# Altium footprint library SFH2400.PcbLib: 1 footprints
Each footprint in its own frame and in the unit in brackets; x right, y up, seen from the top. Pads: shape width x height; smd on the part's side, far side on the other; paste and mask are expansions set on the pad; w line width, h text height; cw(c..) or ccw(c..) is an arc to the next point about the centre after c.
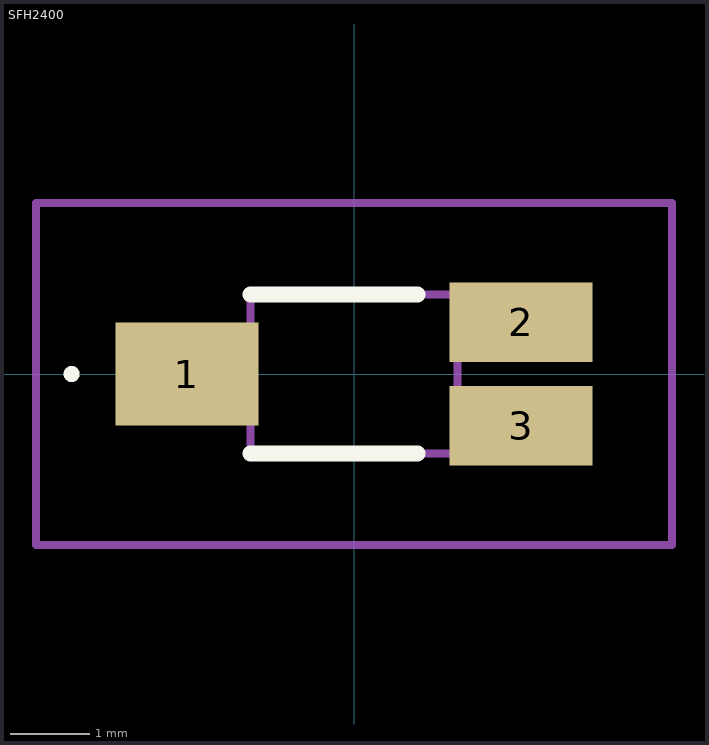
[diagram p0: the footprint, top view; thin cyan lines are the x and y axes]

## SFH2400 [mm]
pads (3):
  rect 1.8x1.3 smd: 1(-2.1,0)
  rect 1.8x1 smd: 2(2.1,0.65) 3(2.1,-0.65)
Top Overlay:
  lines w0.1: -3.6,0 -3.6,0 ; -3.6,0 ccw(c-3.55,0) -3.5,0 ; -3.6,0 cw(c-3.55,0) -3.5,0 ; -3.5,0 -3.5,0
  lines w0.2: -1.3,-1 0.8,-1 ; -1.3,1 0.8,1
Mechanical 15:
  lines w0.1: -1.3,-1 1.3,-1 1.3,1 -1.3,1 -1.3,-1
Mechanical 20:
  lines w0.1: -4,-2.15 4,-2.15 4,2.15 -4,2.15 -4,-2.15